# EAGLE library part TYPE-C-4PINPLUG-INBOARD-16PBOARD-FEMALE (library usb)
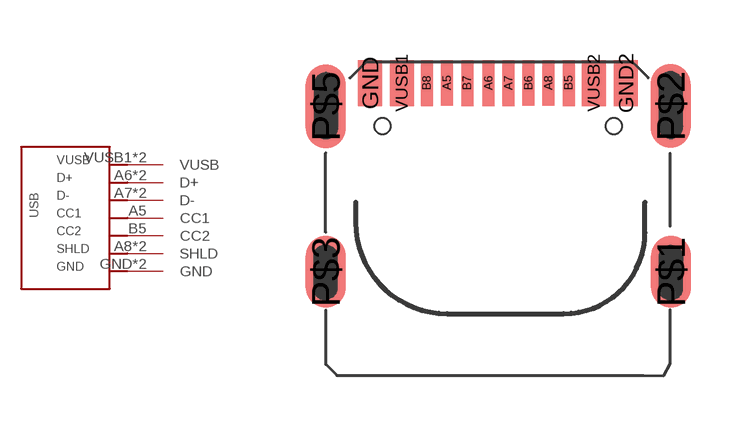
[diagram p0: symbol with the pads of TYPE-C-4PINPLUG-INBOARD-16PBOARD-FEMALE; footprint TYPE-C-4PINPLUG-INBOARD-16PBOARD-FEMALE]

Designator prefix -

## TYPE-C-4PINPLUG-INBOARD-16PBOARD-FEMALE  [TYPE-C-4PINPLUG-INBOARD-16PBOARD-FEMALE]
A5  CC1
A6  D+
A7  D-
A8  SHLD
B5  CC2
B6  D+
B7  D-
B8  SHLD
GND  GND
GND2  GND
VUSB1  VUSB
VUSB2  VUSB

## Footprint TYPE-C-4PINPLUG-INBOARD-16PBOARD-FEMALE (pad centres in mm)
smd 0.3 x 1.15: A5 -1.268,3.363; A6 -0.229,3.362; A7 0.271,3.363; A8 1.271,3.363; B5 1.773,3.363; B6 0.771,3.363; B7 -0.764,3.362; B8 -1.775,3.362
smd 0.6 x 1.15: GND -3.192,3.362; GND2 3.207,3.361; VUSB1 -2.403,3.361; VUSB2 2.402,3.361
smd 1 x 1.8: P$1 4.33,-1.367; P$3 -4.308,-1.366
smd 1 x 2.1: P$2 4.324,2.787; P$5 -4.308,2.781
hole 0.4 at 2.904,2.28
hole 0.4 at -2.89,2.28